# Altium footprint library 3.17-电源接口.PcbLib: 8 footprints
Each footprint in its own frame and in the unit in brackets; x right, y up, seen from the top. Pads: shape width x height; smd on the part's side, far side on the other; paste and mask are expansions set on the pad; w line width, h text height; cw(c..) or ccw(c..) is an arc to the next point about the centre after c.
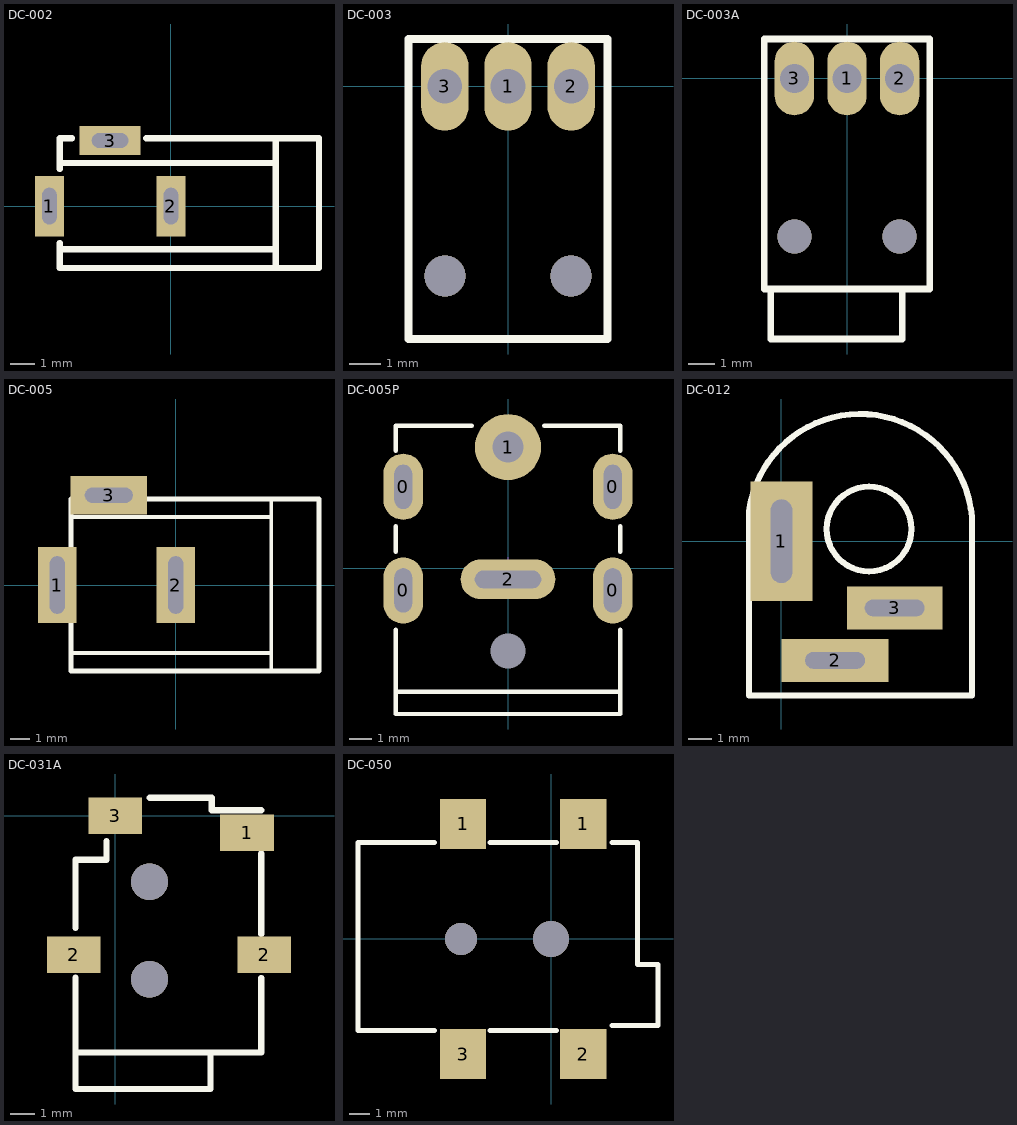
[diagram p0: the footprints below, top view; thin cyan lines are the x and y axes]

## DC-002 [mm] "3.5*1.1mm      [ PCBѧϰȺ514746572 ]"
pads (3):
  rect 1.2x2.5 hole 0.6 slot 1.5 at 90 deg: 1(-5,0) 2(0,0)
  rect 2.5x1.2 hole 0.6 slot 1.5 at 0 deg: 3(-2.5,2.7)
Top Overlay:
  lines w0.254: -4.572,-1.778 4.318,-1.778 ; -4.572,-1.524 -4.572,-2.54 6.096,-2.54 6.096,2.794 -1.016,2.794 ; -4.572,1.524 -4.572,2.794 -4.064,2.794 ; -4.572,1.778 4.318,1.778 ; 4.318,-2.54 4.318,-1.778 ; 4.318,2.794 4.318,1.778 ; 4.318,-1.778 4.318,1.778
3D body "DC-002.STEP": height 7.43, standoff -3.27, extent -5.3,-2.5 6,2.85

## DC-003 [mm] "3.5*1.1mm      [ PCBѧϰȺ514746572 ]"
pads (3):
  oval 1.5x2.8 hole 1.1: 1(0,0) 2(2,0) 3(-2,0)
via 2,-6 diameter 1.3 hole 1.3
via -2,-6 diameter 1.3 hole 1.3
Top Overlay:
  lines w0.254: -3.15,-8 3.15,-8 3.15,1.5 -3.15,1.5 -3.15,-8
3D body "DC-003.STEP": height 5, standoff -3.2, extent -3.15,-8 3.15,1

## DC-003A [mm] "3.5*1.1mm      [ PCBѧϰȺ514746572 ]"
pads (3):
  oval 1.5x2.8 hole 1.1: 1(0,0) 2(2,0) 3(-2,0)
via -2,-6 diameter 1.3 hole 1.3
via 2,-6 diameter 1.3 hole 1.3
Top Overlay:
  lines w0.254: -2.896,-8 -2.896,-9.9 2.104,-9.9 2.104,-8 ; -3.15,-8 -3.15,1.5 3.15,1.5 3.15,-8 -3.15,-8
3D body "DC-003a.STEP": height 5, standoff -3.2, extent -3.15,-9.9 3.15,1

## DC-005 [mm] "5.5*2.1mm，DC30V,2.5A      [ PCB学习群514746572 ]"
pads (3):
  rect 2x4 hole 0.8 slot 3 at 90 deg: 1(-6.2,0) 2(0,0)
  rect 4x2 hole 0.8 slot 2.5 at 0 deg: 3(-3.5,4.7)
Top Overlay:
  lines w0.2: -5.484,-3.556 5,-3.556 ; -5.484,3.556 5,3.556 ; 5,-4.5 5,4.5
  lines w0.254: -5.484,-4.5 -5.484,4.5 7.5,4.5 7.5,-4.5 -5.484,-4.5
3D body "DC-005.STEP": height 11, standoff -4, extent -6.55,-4.5 7.5,4.8

## DC-005P [mm] "13mm*10mm*10mm(长*宽*高)      [ PCB学习群514746572 ]"
pads (7):
  oval 1.8x3 hole 0.8 slot 2 at 90 deg unplated: 0(-4.75,-1) 0(-4.75,3.7) 0(4.75,-1) 0(4.75,3.7)
  round 3 hole 1.4 unplated: 1(0,5.5)
  oval 4.3x1.8 hole 0.8 slot 3 at 0 deg unplated: 2(0,-0.5)
  round 0 hole 1.6 unplated: 4(0,-3.75)
Top Overlay:
  lines w0.203: -5.08,-5.588 5.08,-5.588 ; -5.08,-2.794 -5.08,-6.604 5.08,-6.604 5.08,-2.794 ; -5.08,0.762 -5.08,1.905 ; -5.08,5.334 -5.08,6.477 -1.651,6.477 ; 1.651,6.477 5.08,6.477 5.08,6.35 5.08,5.334 ; 5.08,0.762 5.08,1.905
Mechanical 15:
  circle w0.05: c0,0 r0.35
  lines w0.05: -0.5,0 0.5,0 ; 0,-0.5 0,0.5
3D body "DC-005p.STEP": height 10.15, standoff -2.15, extent -5,-6.5 5,6.3

## DC-012 [mm] "5.5*2.1      [ PCBѧϰȺ514746572 ]"
pads (3):
  rect 2.6x5 hole 0.9 slot 3.5 at 90 deg: 1(0,0)
  rect 4.5x1.8 hole 0.7 slot 2.5 at 0 deg: 2(2.25,-5)
  rect 4x1.8 hole 0.7 slot 2.5 at 0 deg: 3(4.75,-2.8)
Top Overlay:
  circle w0.254: c3.676,0.508 r1.778
  lines w0.254: -1.355,-6.477 8.001,-6.477 8.001,0.635 ccw(c3.302,0.635) -1.355,1.264 -1.355,-6.477
3D body "DC-012.STEP": height 13, standoff -5, extent -1.071,-6.516 7.929,4.484

## DC-031A [mm] "3.5*1.3      [ PCBѧϰȺ514746572 ]"
pads (4):
  rect 2.2x1.5 smd: 1(5.4,-0.7) 2(-1.7,-5.7) 2(6.1,-5.7) 3(0,0)
via 1.4,-6.7 diameter 1.5 hole 1.5
via 1.4,-2.7 diameter 1.5 hole 1.5
Top Overlay:
  lines w0.254: -1.638,-9.676 -1.614,-9.7 3.9,-9.7 ; -1.638,-6.628 -1.638,-11.2 3.9,-11.2 3.9,-9.7 ; -1.638,-4.596 -1.638,-1.802 -0.368,-1.802 -0.368,-1.04 ; 1.41,0.738 3.95,0.738 3.95,0.23 5.982,0.23 ; 5.982,-6.652 5.982,-9.7 3.9,-9.7 ; 5.982,-4.85 5.982,-1.548
3D body "DC-031A.STEP": height 5, standoff -1.4, extent -2.4,-11.2 6.8,0.8

## DC-050 [mm] "5.5*2.1      [ PCBѧϰȺ514746572 ]"
pads (4):
  rect 2.3x2.5 smd: 1(-4.4,5.75) 1(1.6,5.75) 2(1.6,-5.75) 3(-4.4,-5.75)
via 0,0 diameter 1.8 hole 1.8
via -4.5,0 diameter 1.6 hole 1.6
Top Overlay:
  lines w0.254: -5.842,-4.572 -9.652,-4.572 -9.652,4.826 -5.842,4.826 ; -3.048,-4.572 0.254,-4.572 ; -3.048,4.826 0.254,4.826 ; 3.048,-4.318 5.334,-4.318 5.334,-1.27 4.318,-1.27 4.318,4.826 3.048,4.826
3D body "DC-050.STEP": height 11, standoff -1.4, extent -9.593,-6.3 5.207,6.3